# Altium footprint library 470531000.PcbLib: 1 footprints
Each footprint in its own frame and in the unit in brackets; x right, y up, seen from the top. Pads: shape width x height; smd on the part's side, far side on the other; paste and mask are expansions set on the pad; w line width, h text height; cw(c..) or ccw(c..) is an arc to the next point about the centre after c.
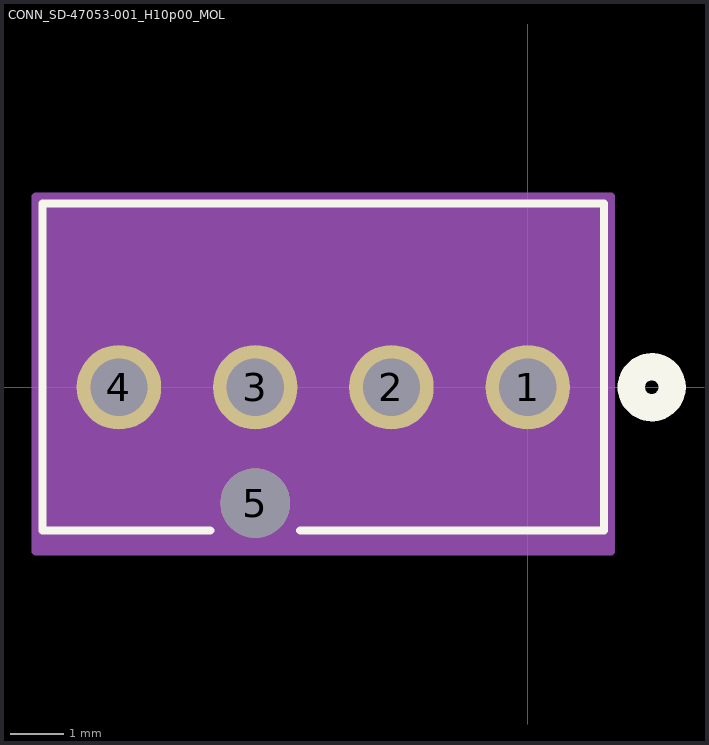
[diagram p0: the footprint, top view; thin cyan lines are the x and y axes]

## CONN_SD-47053-001_H10p00_MOL [mil]
pads (5):
  round 62 hole 42 paste-99999 mask+0: 1(0,0) 2(-100,0) 3(-200,0) 4(-300,0)
  round 51 hole 51 unplated paste-99999 mask+0: 5(-200,-85.04)
Top Overlay:
  circle w20: c91,0 r15
  lines w6: -232.99,-105.08 -356,-105.08 -356,134.92 56,134.92 56,-105.08 -167.01,-105.08
  text ".Designator" at -370,-175 h50
Bottom Overlay:
  circle w20: c91,0 r15
Mechanical 13:
  circle w20: c0,0 r15
  lines w1: -351,-100.08 51,-100.08 51,129.92 -351,129.92 -351,-100.08
Mechanical 15:
  region: 61,139.92 -361,139.92 -361,-120.54 61,-120.54
  lines w6: -361,-120.54 -361,139.92 61,139.92 61,-120.54 -361,-120.54